# EAGLE library part PAC1932 (library bschulz)
PAC1932 - High Side Current/Power Monitor with I2C Interface and Accumulator Characteristics: Vcc: 2.7V ~ 5.5V Iq: 5uA (Sleep) 0.1μA (Power Down) Common Mode Range: 0V ~ 40V Operating Temperature: -40°C to 85°C Digikey: PAC1932T-I/JQCT-ND (QFN) <https://www.digikey.com/product-detail/en/microchip-technology/PAC1932T-I-JQ/PAC1932T-I-JQCT-ND/9453207>
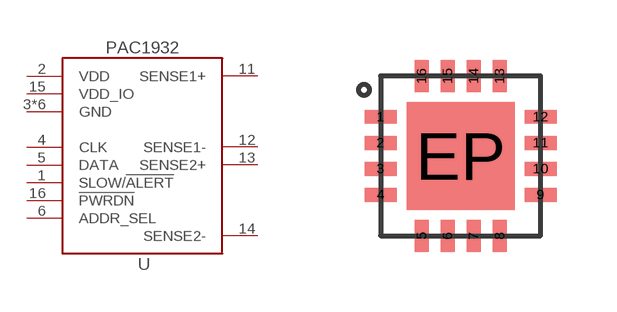
[diagram p123: symbol with the pads of QFN16; footprint QFN16]

Designator prefix U

## PAC1932QFN (DIGIKEY: PAC1932T-I/JQCT-ND; MF: Microchip; MPN: PAC1932T-I/JQ)  [QFN16]
1  SLOW/!ALERT
2  VDD  pwr
3  GND  pwr
4  CLK  in
5  DATA
6  ADDR_SEL  in
7  GND  pwr
8  GND  pwr
9  GND  pwr
10  GND  pwr
11  SENSE1+  in
12  SENSE1-  in
13  SENSE2+  in
14  SENSE2-  in
15  VDD_IO  oc
16  !PWRDN  in
EP  GND  pwr

## Footprint QFN16 (pad centres in mm)
4x4mm, 16 pin, 0.65mm pitch Referance Datasheet <http://ww1.microchip.com/downloads/en/DeviceDoc/PAC1931-Family-Data-Sheet-DS20005850E.pdf> ~60% EP stencil coverage
smd 0.8 x 0.35: 1 -2,0.975; 2 -2,0.325; 3 -2,-0.325; 4 -2,-0.975; 9 2,-0.975; 10 2,-0.325; 11 2,0.325; 12 2,0.975
smd 0.35 x 0.8: 5 -0.975,-2; 6 -0.325,-2; 7 0.325,-2; 8 0.975,-2; 13 0.975,2; 14 0.325,2; 15 -0.325,2; 16 -0.975,2
smd 2.7 x 2.7: EP 0,0